# EAGLE library part MODERNDEVICE_PINHD-2X3 (library BBLeo_v2)
PIN HEADER
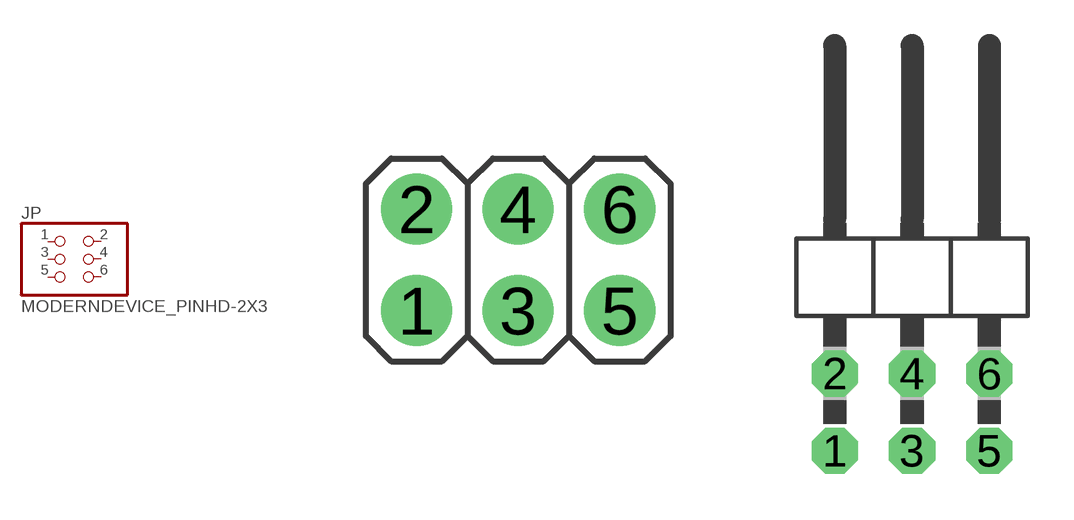
[diagram p2: symbol with the pads of MODERNDEVICE_2X03; footprints MODERNDEVICE_2X03, MODERNDEVICE_2X03/90]

Designator prefix JP

## MODERNDEVICE_PINHD-2X3  [MODERNDEVICE_2X03]
1  1  pas
2  2  pas
3  3  pas
4  4  pas
5  5  pas
6  6  pas

## MODERNDEVICE_PINHD-2X3/90  [MODERNDEVICE_2X03/90]
Pads as for MODERNDEVICE_2X03

## Footprint MODERNDEVICE_2X03 (pad centres in mm)
PIN HEADER
drill 0.94 pad 1.778: 1 -2.54,-1.27; 2 -2.54,1.27; 3 0,-1.27; 4 0,1.27; 5 2.54,-1.27; 6 2.54,1.27

## Footprint MODERNDEVICE_2X03/90 (pad centres in mm)
PIN HEADER
drill 1.016 octagon: 1 -2.54,-6.35; 2 -2.54,-3.81; 3 0,-6.35; 4 0,-3.81; 5 2.54,-6.35; 6 2.54,-3.81